# EAGLE library part IMU (library Kirt-Lab4)
LSM9DS0 Digikey IMU 24 pin IMU 3d accelerometer, 3D gyroscope, 3D mmagnetometer Pin 1 located below dot Temp Range -40 to +85 C Created by Kirt Spotkaeff Datasheet: Labs/Lab4/datasheets/LSM9DS0.pdf.
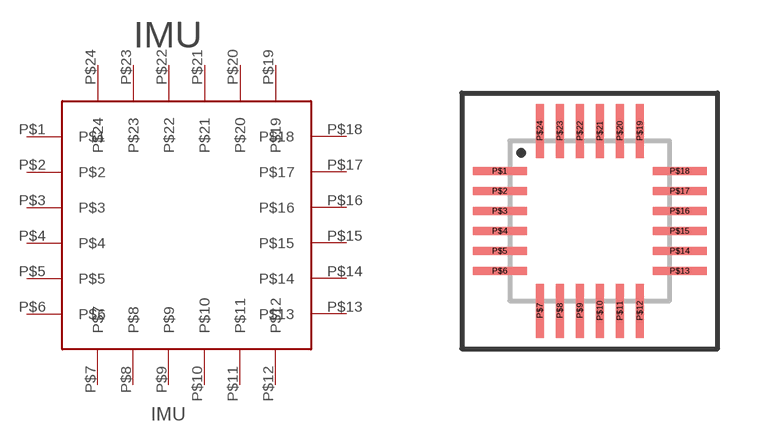
[diagram p0: symbol with the pads of IMU; footprint IMU]

Designator prefix IMU

## IMU (CREATOR: Kirt Spotkaeff; DIST: Digikey; DISTPN: LSM9DS0)  [IMU]
P$1  P$1
P$2  P$2
P$3  P$3
P$4  P$4
P$5  P$5
P$6  P$6
P$7  P$7
P$8  P$8
P$9  P$9
P$10  P$10
P$11  P$11
P$12  P$12
P$13  P$13
P$14  P$14
P$15  P$15
P$16  P$16
P$17  P$17
P$18  P$18
P$19  P$19
P$20  P$20
P$21  P$21
P$22  P$22
P$23  P$23
P$24  P$24

## Footprint IMU (pad centres in mm)
smd 1.35 x 0.2: P$1 -2.25,1.25; P$2 -2.25,0.75; P$3 -2.25,0.25; P$4 -2.25,-0.25; P$5 -2.25,-0.75; P$6 -2.25,-1.25; P$13 2.25,-1.25; P$14 2.25,-0.75; P$15 2.25,-0.25; P$16 2.25,0.25; P$17 2.25,0.75; P$18 2.25,1.25
smd 0.2 x 1.35: P$7 -1.25,-2.25; P$8 -0.75,-2.25; P$9 -0.25,-2.25; P$10 0.25,-2.25; P$11 0.75,-2.25; P$12 1.25,-2.25; P$19 1.25,2.25; P$20 0.75,2.25; P$21 0.25,2.25; P$22 -0.25,2.25; P$23 -0.75,2.25; P$24 -1.25,2.25